# Altium schematic symbol library 传感器.SchLib: 6 symbols
Pins are listed as number, name and electrical type; pins without a type are passive.

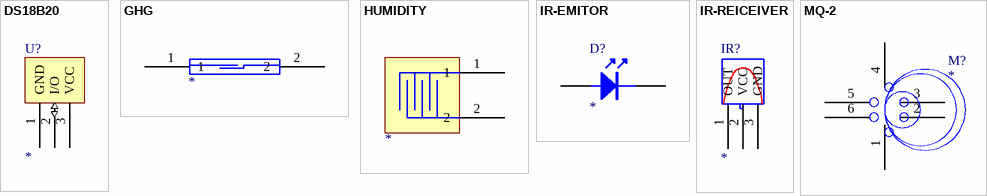
[diagram p0: symbols DS18B20 to MQ-2]

## DS18B20
designator U?
pins: 1 GND (power), 2 I/O (io), 3 VCC (power)

## GHG
designator ?
pins: 1, 2

## HUMIDITY
designator ?
pins: 1, 2

## IR-EMITOR
designator D?
pins: 1, 2

## IR-REICEIVER
designator IR?
pins: 1 OUT, 2 VCC, 3 GND

## MQ-2
designator M?
pins: 1 H1, 2, 3 A1, 4 H2, 5 A2, 6 B2
1 alternate drawing of the same symbol